# Altium integrated library SMA_2_And_4_Layer_Footprints.IntLib: 2 symbols
Pins are listed as number, name and electrical type; pins without a type are passive.

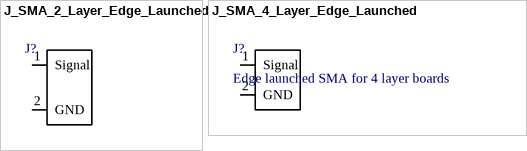
[diagram p0: symbols J_SMA_2_Layer_Edge_Launched to J_SMA_4_Layer_Edge_Launched]

## J_SMA_2_Layer_Edge_Launched
designator J?, comment SMA Edge Launched  (value not drawn)
2 Layer SMA Connector Without Taper and No Vias
footprint SMA_2_Layer_Edge_Launched
pins: 1 Signal, 2 GND

## J_SMA_4_Layer_Edge_Launched
designator J?, comment Edge launched SMA for 4 layer boards
footprint SMA_4_Layer_Edge_Launched
pins: 1 Signal, 2 GND